# Altium footprint library Sensors & MEMS.PcbLib: 48 footprints (part 2 of 3)
Each footprint in its own frame and in the unit in brackets; x right, y up, seen from the top. Pads: shape width x height; smd on the part's side, far side on the other; paste and mask are expansions set on the pad; w line width, h text height; cw(c..) or ccw(c..) is an arc to the next point about the centre after c.
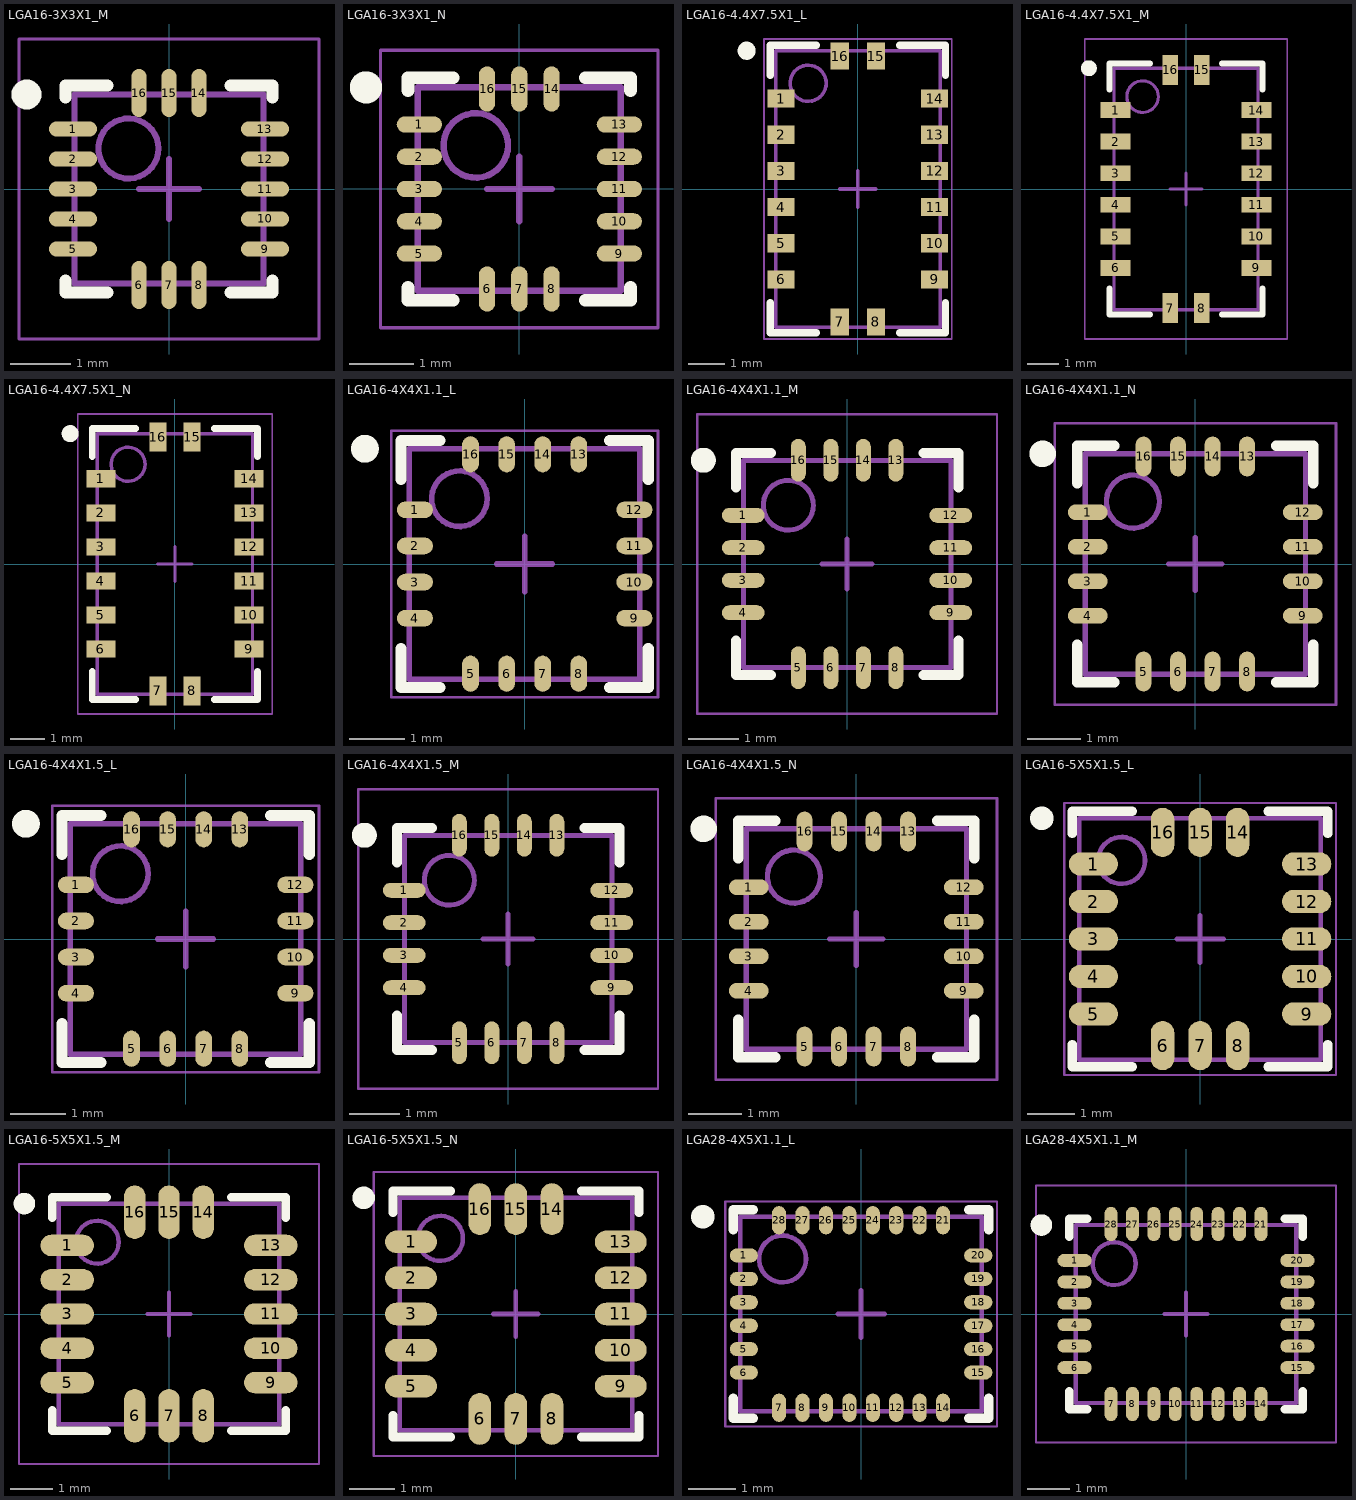
[diagram p1: the footprints below, top view; thin cyan lines are the x and y axes]

## LGA16-3X3X1_M [mm] "PQFN, 16-Leads, Body 3x3mm, Pitch 0.5mm, IPC Low Density"
height 1
pads (16):
  oval 0.8x0.25 smd: 1(-1.6,1) 2(-1.6,0.5) 3(-1.6,0) 4(-1.6,-0.5) 5(-1.6,-1) 9(1.6,-1) 10(1.6,-0.5) 11(1.6,0) 12(1.6,0.5) 13(1.6,1)
  oval 0.25x0.8 smd: 6(-0.5,-1.6) 7(0,-1.6) 8(0.5,-1.6) 14(0.5,1.6) 15(0,1.6) 16(-0.5,1.6)
Top Overlay:
  circle w0.25: c-2.375,1.575 r0.125
  lines w0.2: -1.725,-1.525 -1.725,-1.725 -1.025,-1.725 ; -1.725,1.525 -1.725,1.725 -1.025,1.725 ; 1.025,-1.725 1.725,-1.725 1.725,-1.525 ; 1.025,1.725 1.725,1.725 1.725,1.525
Mechanical 13:
  circle w0.1: c-0.675,0.675 r0.5
  lines w0.1: -1.575,-1.575 1.575,-1.575 1.575,1.575 -1.575,1.575 -1.575,-1.575
Mechanical 15:
  lines w0.05: -2.5,-2.5 2.5,-2.5 2.5,2.5 -2.5,2.5 -2.5,-2.5
  lines w0.1: -0.5,0 0.5,0 ; 0,-0.5 0,0.5
3D body: height 1, standoff 0, extent -1.575,-1.575 1.575,1.575

## LGA16-3X3X1_N [mm] "PQFN, 16-Leads, Body 3x3mm, Pitch 0.5mm, IPC Medium Density"
height 1
pads (16):
  oval 0.7x0.25 smd: 1(-1.55,1) 2(-1.55,0.5) 3(-1.55,0) 4(-1.55,-0.5) 5(-1.55,-1) 9(1.55,-1) 10(1.55,-0.5) 11(1.55,0) 12(1.55,0.5) 13(1.55,1)
  oval 0.25x0.7 smd: 6(-0.5,-1.55) 7(0,-1.55) 8(0.5,-1.55) 14(0.5,1.55) 15(0,1.55) 16(-0.5,1.55)
Top Overlay:
  circle w0.25: c-2.375,1.575 r0.125
  lines w0.2: -1.725,-1.525 -1.725,-1.725 -1.025,-1.725 ; -1.725,1.525 -1.725,1.725 -1.025,1.725 ; 1.025,-1.725 1.725,-1.725 1.725,-1.525 ; 1.025,1.725 1.725,1.725 1.725,1.525
Mechanical 13:
  circle w0.1: c-0.675,0.675 r0.5
  lines w0.1: -1.575,-1.575 -1.575,1.575 1.575,1.575 1.575,-1.575 -1.575,-1.575
Mechanical 15:
  lines w0.05: -2.15,-2.15 -2.15,2.15 2.15,2.15 2.15,-2.15 -2.15,-2.15
  lines w0.1: -0.5,0 0.5,0 ; 0,-0.5 0,0.5
3D body: height 1, standoff 0, extent -1.575,-1.575 1.575,1.575

## LGA16-4.4X7.5X1_L [mm] "PQFN, 16-Leads, Body 4.4x7.5mm, Pitch 1mm, IPC High Density"
height 1
pads (16):
  rect 0.75x0.5 smd: 1(-2.125,2.5) 2(-2.125,1.5) 3(-2.125,0.5) 4(-2.125,-0.5) 5(-2.125,-1.5) 6(-2.125,-2.5) 9(2.125,-2.5) 10(2.125,-1.5) 11(2.125,-0.5) 12(2.125,0.5) 13(2.125,1.5) 14(2.125,2.5)
  rect 0.5x0.75 smd: 7(-0.5,-3.675) 8(0.5,-3.675) 15(0.5,3.675) 16(-0.5,3.675)
Top Overlay:
  circle w0.25: c-3.075,3.825 r0.125
  lines w0.2: -2.425,-3.15 -2.425,-3.975 -1.15,-3.975 ; -2.425,3.15 -2.425,3.975 -1.15,3.975 ; 1.15,-3.975 2.425,-3.975 2.425,-3.15 ; 1.15,3.975 2.425,3.975 2.425,3.15
Mechanical 13:
  circle w0.1: c-1.375,2.925 r0.5
  lines w0.1: -2.275,-3.825 -2.275,3.825 2.275,3.825 2.275,-3.825 -2.275,-3.825
Mechanical 15:
  lines w0.05: -2.6,-4.15 -2.6,4.15 2.6,4.15 2.6,-4.15 -2.6,-4.15
  lines w0.1: -0.5,0 0.5,0 ; 0,-0.5 0,0.5
3D body: height 1, standoff 0, extent -2.275,-3.825 2.275,3.825

## LGA16-4.4X7.5X1_M [mm] "PQFN, 16-Leads, Body 4.4x7.5mm, Pitch 1mm, IPC Low Density"
height 1
pads (16):
  rect 0.95x0.5 smd: 1(-2.225,2.5) 2(-2.225,1.5) 3(-2.225,0.5) 4(-2.225,-0.5) 5(-2.225,-1.5) 6(-2.225,-2.5) 9(2.225,-2.5) 10(2.225,-1.5) 11(2.225,-0.5) 12(2.225,0.5) 13(2.225,1.5) 14(2.225,2.5)
  rect 0.5x0.95 smd: 7(-0.5,-3.775) 8(0.5,-3.775) 15(0.5,3.775) 16(-0.5,3.775)
Top Overlay:
  circle w0.25: c-3.075,3.825 r0.125
  lines w0.2: -2.425,-3.15 -2.425,-3.975 -1.15,-3.975 ; -2.425,3.15 -2.425,3.975 -1.15,3.975 ; 1.15,-3.975 2.425,-3.975 2.425,-3.15 ; 1.15,3.975 2.425,3.975 2.425,3.15
Mechanical 13:
  circle w0.1: c-1.375,2.925 r0.5
  lines w0.1: -2.275,-3.825 2.275,-3.825 2.275,3.825 -2.275,3.825 -2.275,-3.825
Mechanical 15:
  lines w0.05: -3.2,-4.75 3.2,-4.75 3.2,4.75 -3.2,4.75 -3.2,-4.75
  lines w0.1: -0.5,0 0.5,0 ; 0,-0.5 0,0.5
3D body: height 1, standoff 0, extent -2.275,-3.825 2.275,3.825

## LGA16-4.4X7.5X1_N [mm] "PQFN, 16-Leads, Body 4.4x7.5mm, Pitch 1mm, IPC Medium Density"
height 1
pads (16):
  rect 0.85x0.5 smd: 1(-2.175,2.5) 2(-2.175,1.5) 3(-2.175,0.5) 4(-2.175,-0.5) 5(-2.175,-1.5) 6(-2.175,-2.5) 9(2.175,-2.5) 10(2.175,-1.5) 11(2.175,-0.5) 12(2.175,0.5) 13(2.175,1.5) 14(2.175,2.5)
  rect 0.5x0.85 smd: 7(-0.5,-3.725) 8(0.5,-3.725) 15(0.5,3.725) 16(-0.5,3.725)
Top Overlay:
  circle w0.25: c-3.075,3.825 r0.125
  lines w0.2: -2.425,-3.15 -2.425,-3.975 -1.15,-3.975 ; -2.425,3.15 -2.425,3.975 -1.15,3.975 ; 1.15,-3.975 2.425,-3.975 2.425,-3.15 ; 1.15,3.975 2.425,3.975 2.425,3.15
Mechanical 13:
  circle w0.1: c-1.375,2.925 r0.5
  lines w0.1: -2.275,-3.825 2.275,-3.825 2.275,3.825 -2.275,3.825 -2.275,-3.825
Mechanical 15:
  lines w0.05: -2.85,-4.4 2.85,-4.4 2.85,4.4 -2.85,4.4 -2.85,-4.4
  lines w0.1: -0.5,0 0.5,0 ; 0,-0.5 0,0.5
3D body: height 1, standoff 0, extent -2.275,-3.825 2.275,3.825

## LGA16-4X4X1.1_L [mm] "PQFN, 16-Leads, Body 4x4mm, Pitch 0.65mm, IPC High Density"
height 1.1
pads (16):
  oval 0.65x0.3 smd: 1(-1.975,0.975) 2(-1.975,0.325) 3(-1.975,-0.325) 4(-1.975,-0.975) 9(1.975,-0.975) 10(1.975,-0.325) 11(1.975,0.325) 12(1.975,0.975)
  oval 0.3x0.65 smd: 5(-0.975,-1.975) 6(-0.325,-1.975) 7(0.325,-1.975) 8(0.975,-1.975) 13(0.975,1.975) 14(0.325,1.975) 15(-0.325,1.975) 16(-0.975,1.975)
Top Overlay:
  circle w0.25: c-2.875,2.075 r0.125
  lines w0.2: -2.225,-1.525 -2.225,-2.225 -1.525,-2.225 ; -2.225,1.525 -2.225,2.225 -1.525,2.225 ; 1.525,-2.225 2.225,-2.225 2.225,-1.525 ; 1.525,2.225 2.225,2.225 2.225,1.525
Mechanical 13:
  circle w0.1: c-1.175,1.175 r0.5
  lines w0.1: -2.075,-2.075 -2.075,2.075 2.075,2.075 2.075,-2.075 -2.075,-2.075
Mechanical 15:
  lines w0.05: -2.4,-2.4 -2.4,2.4 2.4,2.4 2.4,-2.4 -2.4,-2.4
  lines w0.1: -0.5,0 0.5,0 ; 0,-0.5 0,0.5
3D body: height 1.1, standoff 0, extent -2.075,-2.075 2.075,2.075

## LGA16-4X4X1.1_M [mm] "PQFN, 16-Leads, Body 4x4mm, Pitch 0.65mm, IPC Low Density"
height 1.1
pads (16):
  oval 0.85x0.3 smd: 1(-2.075,0.975) 2(-2.075,0.325) 3(-2.075,-0.325) 4(-2.075,-0.975) 9(2.075,-0.975) 10(2.075,-0.325) 11(2.075,0.325) 12(2.075,0.975)
  oval 0.3x0.85 smd: 5(-0.975,-2.075) 6(-0.325,-2.075) 7(0.325,-2.075) 8(0.975,-2.075) 13(0.975,2.075) 14(0.325,2.075) 15(-0.325,2.075) 16(-0.975,2.075)
Top Overlay:
  circle w0.25: c-2.875,2.075 r0.125
  lines w0.2: -2.225,-1.525 -2.225,-2.225 -1.525,-2.225 ; -2.225,1.525 -2.225,2.225 -1.525,2.225 ; 1.525,-2.225 2.225,-2.225 2.225,-1.525 ; 1.525,2.225 2.225,2.225 2.225,1.525
Mechanical 13:
  circle w0.1: c-1.175,1.175 r0.5
  lines w0.1: -2.075,-2.075 2.075,-2.075 2.075,2.075 -2.075,2.075 -2.075,-2.075
Mechanical 15:
  lines w0.05: -3,-3 3,-3 3,3 -3,3 -3,-3
  lines w0.1: -0.5,0 0.5,0 ; 0,-0.5 0,0.5
3D body: height 1.1, standoff 0, extent -2.075,-2.075 2.075,2.075

## LGA16-4X4X1.1_N [mm] "PQFN, 16-Leads, Body 4x4mm, Pitch 0.65mm, IPC Medium Density"
height 1.1
pads (16):
  oval 0.75x0.3 smd: 1(-2.025,0.975) 2(-2.025,0.325) 3(-2.025,-0.325) 4(-2.025,-0.975) 9(2.025,-0.975) 10(2.025,-0.325) 11(2.025,0.325) 12(2.025,0.975)
  oval 0.3x0.75 smd: 5(-0.975,-2.025) 6(-0.325,-2.025) 7(0.325,-2.025) 8(0.975,-2.025) 13(0.975,2.025) 14(0.325,2.025) 15(-0.325,2.025) 16(-0.975,2.025)
Top Overlay:
  circle w0.25: c-2.875,2.075 r0.125
  lines w0.2: -2.225,-1.525 -2.225,-2.225 -1.525,-2.225 ; -2.225,1.525 -2.225,2.225 -1.525,2.225 ; 1.525,-2.225 2.225,-2.225 2.225,-1.525 ; 1.525,2.225 2.225,2.225 2.225,1.525
Mechanical 13:
  circle w0.1: c-1.175,1.175 r0.5
  lines w0.1: -2.075,-2.075 2.075,-2.075 2.075,2.075 -2.075,2.075 -2.075,-2.075
Mechanical 15:
  lines w0.05: -2.65,-2.65 2.65,-2.65 2.65,2.65 -2.65,2.65 -2.65,-2.65
  lines w0.1: -0.5,0 0.5,0 ; 0,-0.5 0,0.5
3D body: height 1.1, standoff 0, extent -2.075,-2.075 2.075,2.075

## LGA16-4X4X1.5_L [mm] "PQFN, 16-Leads, Body 4x4mm, Pitch 0.65mm, IPC High Density"
height 1.6
pads (16):
  oval 0.65x0.3 smd: 1(-1.975,0.975) 2(-1.975,0.325) 3(-1.975,-0.325) 4(-1.975,-0.975) 9(1.975,-0.975) 10(1.975,-0.325) 11(1.975,0.325) 12(1.975,0.975)
  oval 0.3x0.65 smd: 5(-0.975,-1.975) 6(-0.325,-1.975) 7(0.325,-1.975) 8(0.975,-1.975) 13(0.975,1.975) 14(0.325,1.975) 15(-0.325,1.975) 16(-0.975,1.975)
Top Overlay:
  circle w0.25: c-2.875,2.075 r0.125
  lines w0.2: -2.225,-1.525 -2.225,-2.225 -1.525,-2.225 ; -2.225,1.525 -2.225,2.225 -1.525,2.225 ; 1.525,-2.225 2.225,-2.225 2.225,-1.525 ; 1.525,2.225 2.225,2.225 2.225,1.525
Mechanical 13:
  circle w0.1: c-1.175,1.175 r0.5
  lines w0.1: -2.075,-2.075 2.075,-2.075 2.075,2.075 -2.075,2.075 -2.075,-2.075
Mechanical 15:
  lines w0.05: -2.4,-2.4 2.4,-2.4 2.4,2.4 -2.4,2.4 -2.4,-2.4
  lines w0.1: -0.5,0 0.5,0 ; 0,-0.5 0,0.5
3D body: height 1.6, standoff 0, extent -2.075,-2.075 2.075,2.075

## LGA16-4X4X1.5_M [mm] "PQFN, 16-Leads, Body 4x4mm, Pitch 0.65mm, IPC Low Density"
height 1.6
pads (16):
  oval 0.85x0.3 smd: 1(-2.075,0.975) 2(-2.075,0.325) 3(-2.075,-0.325) 4(-2.075,-0.975) 9(2.075,-0.975) 10(2.075,-0.325) 11(2.075,0.325) 12(2.075,0.975)
  oval 0.3x0.85 smd: 5(-0.975,-2.075) 6(-0.325,-2.075) 7(0.325,-2.075) 8(0.975,-2.075) 13(0.975,2.075) 14(0.325,2.075) 15(-0.325,2.075) 16(-0.975,2.075)
Top Overlay:
  circle w0.25: c-2.875,2.075 r0.125
  lines w0.2: -2.225,-1.525 -2.225,-2.225 -1.525,-2.225 ; -2.225,1.525 -2.225,2.225 -1.525,2.225 ; 1.525,-2.225 2.225,-2.225 2.225,-1.525 ; 1.525,2.225 2.225,2.225 2.225,1.525
Mechanical 13:
  circle w0.1: c-1.175,1.175 r0.5
  lines w0.1: -2.075,-2.075 -2.075,2.075 2.075,2.075 2.075,-2.075 -2.075,-2.075
Mechanical 15:
  lines w0.05: -3,-3 -3,3 3,3 3,-3 -3,-3
  lines w0.1: -0.5,0 0.5,0 ; 0,-0.5 0,0.5
3D body: height 1.6, standoff 0, extent -2.075,-2.075 2.075,2.075

## LGA16-4X4X1.5_N [mm] "PQFN, 16-Leads, Body 4x4mm, Pitch 0.65mm, IPC Medium Density"
height 1.6
pads (16):
  oval 0.75x0.3 smd: 1(-2.025,0.975) 2(-2.025,0.325) 3(-2.025,-0.325) 4(-2.025,-0.975) 9(2.025,-0.975) 10(2.025,-0.325) 11(2.025,0.325) 12(2.025,0.975)
  oval 0.3x0.75 smd: 5(-0.975,-2.025) 6(-0.325,-2.025) 7(0.325,-2.025) 8(0.975,-2.025) 13(0.975,2.025) 14(0.325,2.025) 15(-0.325,2.025) 16(-0.975,2.025)
Top Overlay:
  circle w0.25: c-2.875,2.075 r0.125
  lines w0.2: -2.225,-1.525 -2.225,-2.225 -1.525,-2.225 ; -2.225,1.525 -2.225,2.225 -1.525,2.225 ; 1.525,-2.225 2.225,-2.225 2.225,-1.525 ; 1.525,2.225 2.225,2.225 2.225,1.525
Mechanical 13:
  circle w0.1: c-1.175,1.175 r0.5
  lines w0.1: -2.075,-2.075 2.075,-2.075 2.075,2.075 -2.075,2.075 -2.075,-2.075
Mechanical 15:
  lines w0.05: -2.65,-2.65 2.65,-2.65 2.65,2.65 -2.65,2.65 -2.65,-2.65
  lines w0.1: -0.5,0 0.5,0 ; 0,-0.5 0,0.5
3D body: height 1.6, standoff 0, extent -2.075,-2.075 2.075,2.075

## LGA16-5X5X1.5_L [mm] "PQFN, 16-Leads, Body 5x5mm, Pitch 0.8mm, IPC High Density"
height 1.6
pads (16):
  oval 1.05x0.5 smd: 1(-2.275,1.6) 2(-2.275,0.8) 3(-2.275,0) 4(-2.275,-0.8) 5(-2.275,-1.6) 9(2.275,-1.6) 10(2.275,-0.8) 11(2.275,0) 12(2.275,0.8) 13(2.275,1.6)
  oval 0.5x1.05 smd: 6(-0.8,-2.275) 7(0,-2.275) 8(0.8,-2.275) 14(0.8,2.275) 15(0,2.275) 16(-0.8,2.275)
Top Overlay:
  circle w0.25: c-3.375,2.575 r0.125
  lines w0.2: -2.725,-2.25 -2.725,-2.725 -1.45,-2.725 ; -2.725,2.25 -2.725,2.725 -1.45,2.725 ; 1.45,-2.725 2.725,-2.725 2.725,-2.25 ; 1.45,2.725 2.725,2.725 2.725,2.25
Mechanical 13:
  circle w0.1: c-1.675,1.675 r0.5
  lines w0.1: -2.575,-2.575 2.575,-2.575 2.575,2.575 -2.575,2.575 -2.575,-2.575
Mechanical 15:
  lines w0.05: -2.9,-2.9 2.9,-2.9 2.9,2.9 -2.9,2.9 -2.9,-2.9
  lines w0.1: -0.5,0 0.5,0 ; 0,-0.5 0,0.5
3D body: height 1.6, standoff 0, extent -2.575,-2.575 2.575,2.575

## LGA16-5X5X1.5_M [mm] "PQFN, 16-Leads, Body 5x5mm, Pitch 0.8mm, IPC Low Density"
height 1.6
pads (16):
  oval 1.25x0.5 smd: 1(-2.375,1.6) 2(-2.375,0.8) 3(-2.375,0) 4(-2.375,-0.8) 5(-2.375,-1.6) 9(2.375,-1.6) 10(2.375,-0.8) 11(2.375,0) 12(2.375,0.8) 13(2.375,1.6)
  oval 0.5x1.25 smd: 6(-0.8,-2.375) 7(0,-2.375) 8(0.8,-2.375) 14(0.8,2.375) 15(0,2.375) 16(-0.8,2.375)
Top Overlay:
  circle w0.25: c-3.375,2.575 r0.125
  lines w0.2: -2.725,-2.25 -2.725,-2.725 -1.45,-2.725 ; -2.725,2.25 -2.725,2.725 -1.45,2.725 ; 1.45,-2.725 2.725,-2.725 2.725,-2.25 ; 1.45,2.725 2.725,2.725 2.725,2.25
Mechanical 13:
  circle w0.1: c-1.675,1.675 r0.5
  lines w0.1: -2.575,-2.575 2.575,-2.575 2.575,2.575 -2.575,2.575 -2.575,-2.575
Mechanical 15:
  lines w0.05: -3.5,-3.5 3.5,-3.5 3.5,3.5 -3.5,3.5 -3.5,-3.5
  lines w0.1: -0.5,0 0.5,0 ; 0,-0.5 0,0.5
3D body: height 1.6, standoff 0, extent -2.575,-2.575 2.575,2.575

## LGA16-5X5X1.5_N [mm] "PQFN, 16-Leads, Body 5x5mm, Pitch 0.8mm, IPC Medium Density"
height 1.6
pads (16):
  oval 1.15x0.5 smd: 1(-2.325,1.6) 2(-2.325,0.8) 3(-2.325,0) 4(-2.325,-0.8) 5(-2.325,-1.6) 9(2.325,-1.6) 10(2.325,-0.8) 11(2.325,0) 12(2.325,0.8) 13(2.325,1.6)
  oval 0.5x1.15 smd: 6(-0.8,-2.325) 7(0,-2.325) 8(0.8,-2.325) 14(0.8,2.325) 15(0,2.325) 16(-0.8,2.325)
Top Overlay:
  circle w0.25: c-3.375,2.575 r0.125
  lines w0.2: -2.725,-2.25 -2.725,-2.725 -1.45,-2.725 ; -2.725,2.25 -2.725,2.725 -1.45,2.725 ; 1.45,-2.725 2.725,-2.725 2.725,-2.25 ; 1.45,2.725 2.725,2.725 2.725,2.25
Mechanical 13:
  circle w0.1: c-1.675,1.675 r0.5
  lines w0.1: -2.575,-2.575 -2.575,2.575 2.575,2.575 2.575,-2.575 -2.575,-2.575
Mechanical 15:
  lines w0.05: -3.15,-3.15 -3.15,3.15 3.15,3.15 3.15,-3.15 -3.15,-3.15
  lines w0.1: -0.5,0 0.5,0 ; 0,-0.5 0,0.5
3D body: height 1.6, standoff 0, extent -2.575,-2.575 2.575,2.575

## LGA28-4X5X1.1_L [mm] "PQFN, 28-Leads, Body 5x4mm, Pitch 0.5mm, IPC High Density"
height 1.1
pads (28):
  oval 0.6x0.3 smd: 1(-2.5,1.25) 2(-2.5,0.75) 3(-2.5,0.25) 4(-2.5,-0.25) 5(-2.5,-0.75) 6(-2.5,-1.25) 15(2.5,-1.25) 16(2.5,-0.75) 17(2.5,-0.25) 18(2.5,0.25) 19(2.5,0.75) 20(2.5,1.25)
  oval 0.3x0.6 smd: 7(-1.75,-2) 8(-1.25,-2) 9(-0.75,-2) 10(-0.25,-2) 11(0.25,-2) 12(0.75,-2) 13(1.25,-2) 14(1.75,-2) 21(1.75,2) 22(1.25,2) 23(0.75,2) 24(0.25,2) 25(-0.25,2) 26(-0.75,2) 27(-1.25,2) 28(-1.75,2)
Top Overlay:
  circle w0.25: c-3.375,2.075 r0.125
  lines w0.2: -2.725,-1.8 -2.725,-2.225 -2.3,-2.225 ; -2.725,1.8 -2.725,2.225 -2.3,2.225 ; 2.3,-2.225 2.725,-2.225 2.725,-1.8 ; 2.3,2.225 2.725,2.225 2.725,1.8
Mechanical 13:
  circle w0.1: c-1.675,1.175 r0.5
  lines w0.1: -2.575,-2.075 -2.575,2.075 2.575,2.075 2.575,-2.075 -2.575,-2.075
Mechanical 15:
  lines w0.05: -2.9,-2.4 -2.9,2.4 2.9,2.4 2.9,-2.4 -2.9,-2.4
  lines w0.1: -0.5,0 0.5,0 ; 0,-0.5 0,0.5
3D body: height 1.1, standoff 0, extent -2.575,-2.075 2.575,2.075

## LGA28-4X5X1.1_M [mm] "PQFN, 28-Leads, Body 5x4mm, Pitch 0.5mm, IPC Low Density"
height 1.1
pads (28):
  oval 0.8x0.3 smd: 1(-2.6,1.25) 2(-2.6,0.75) 3(-2.6,0.25) 4(-2.6,-0.25) 5(-2.6,-0.75) 6(-2.6,-1.25) 15(2.6,-1.25) 16(2.6,-0.75) 17(2.6,-0.25) 18(2.6,0.25) 19(2.6,0.75) 20(2.6,1.25)
  oval 0.3x0.8 smd: 7(-1.75,-2.1) 8(-1.25,-2.1) 9(-0.75,-2.1) 10(-0.25,-2.1) 11(0.25,-2.1) 12(0.75,-2.1) 13(1.25,-2.1) 14(1.75,-2.1) 21(1.75,2.1) 22(1.25,2.1) 23(0.75,2.1) 24(0.25,2.1) 25(-0.25,2.1) 26(-0.75,2.1) 27(-1.25,2.1) 28(-1.75,2.1)
Top Overlay:
  circle w0.25: c-3.375,2.075 r0.125
  lines w0.2: -2.725,-1.8 -2.725,-2.225 -2.3,-2.225 ; -2.725,1.8 -2.725,2.225 -2.3,2.225 ; 2.3,-2.225 2.725,-2.225 2.725,-1.8 ; 2.3,2.225 2.725,2.225 2.725,1.8
Mechanical 13:
  circle w0.1: c-1.675,1.175 r0.5
  lines w0.1: -2.575,-2.075 -2.575,2.075 2.575,2.075 2.575,-2.075 -2.575,-2.075
Mechanical 15:
  lines w0.05: -3.5,-3 -3.5,3 3.5,3 3.5,-3 -3.5,-3
  lines w0.1: -0.5,0 0.5,0 ; 0,-0.5 0,0.5
3D body: height 1.1, standoff 0, extent -2.575,-2.075 2.575,2.075